# Altium integrated library RFPC-SMA23-FN-186-A.IntLib: 1 symbol
Pins are listed as number, name and electrical type; pins without a type are passive.

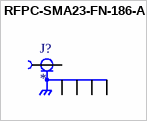
[diagram p0: symbol RFPC-SMA23-FN-186-A]

## RFPC-SMA23-FN-186-A
designator J?
SMA Connector Jack, Female Socket 50 Ohms Board Edge, End Launch; Panel Mount Solder; MF: GradConn; MP: RFPC-SMA23-FN-186-A; SnapEDA_Link: https://www.snapeda.com/parts/RFPC-SMA23-FN-186-A/GradConn/view-part/?ref=snap; Package: None; Value: *; Check_prices: https://www.snapeda.com/parts/RFPC-SMA23-FN-186-A/GradConn/view-part/?ref=eda
footprint GRADCONN_RFPC-SMA23-FN-186-A
pins: 1, G1 (power), G2 (power), G3 (power), G4 (power)